# Altium integrated library RASM722PTR13X.IntLib: 1 symbol
Pins are listed as number, name and electrical type; pins without a type are passive.

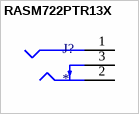
[diagram p0: symbol RASM722PTR13X]

## RASM722PTR13X
designator J?
Power Barrel Connector Jack 2.10mm ID (0.083), 5.50mm OD (0.217) Surface Mount, Right Angle; MP: RASM722PTR13X; MF: Switchcraft; SnapEDA_Link: https://www.snapeda.com/parts/RASM722PTR13X/Switchcraft+%252F+Conxall/view-part/?ref=snap; Package: None; Availability: In Stock; Price: None; Purchase-URL: https://pricing.snapeda.com/search/part/RASM722PTR13X/?ref=eda; Check_prices: https://www.snapeda.com/parts/RASM722PTR13X/Switchcraft+%252F+Conxall/view-part/?ref=eda; Value: *
footprint SWITCHCRAFT_RASM722PTR13X
pins: 1 TIP, 2 SLEEVE, 3 SHUNT